# Altium schematic symbol library Schlib1.SchLib: 14 symbols
Pins are listed as number, name and electrical type; pins without a type are passive.

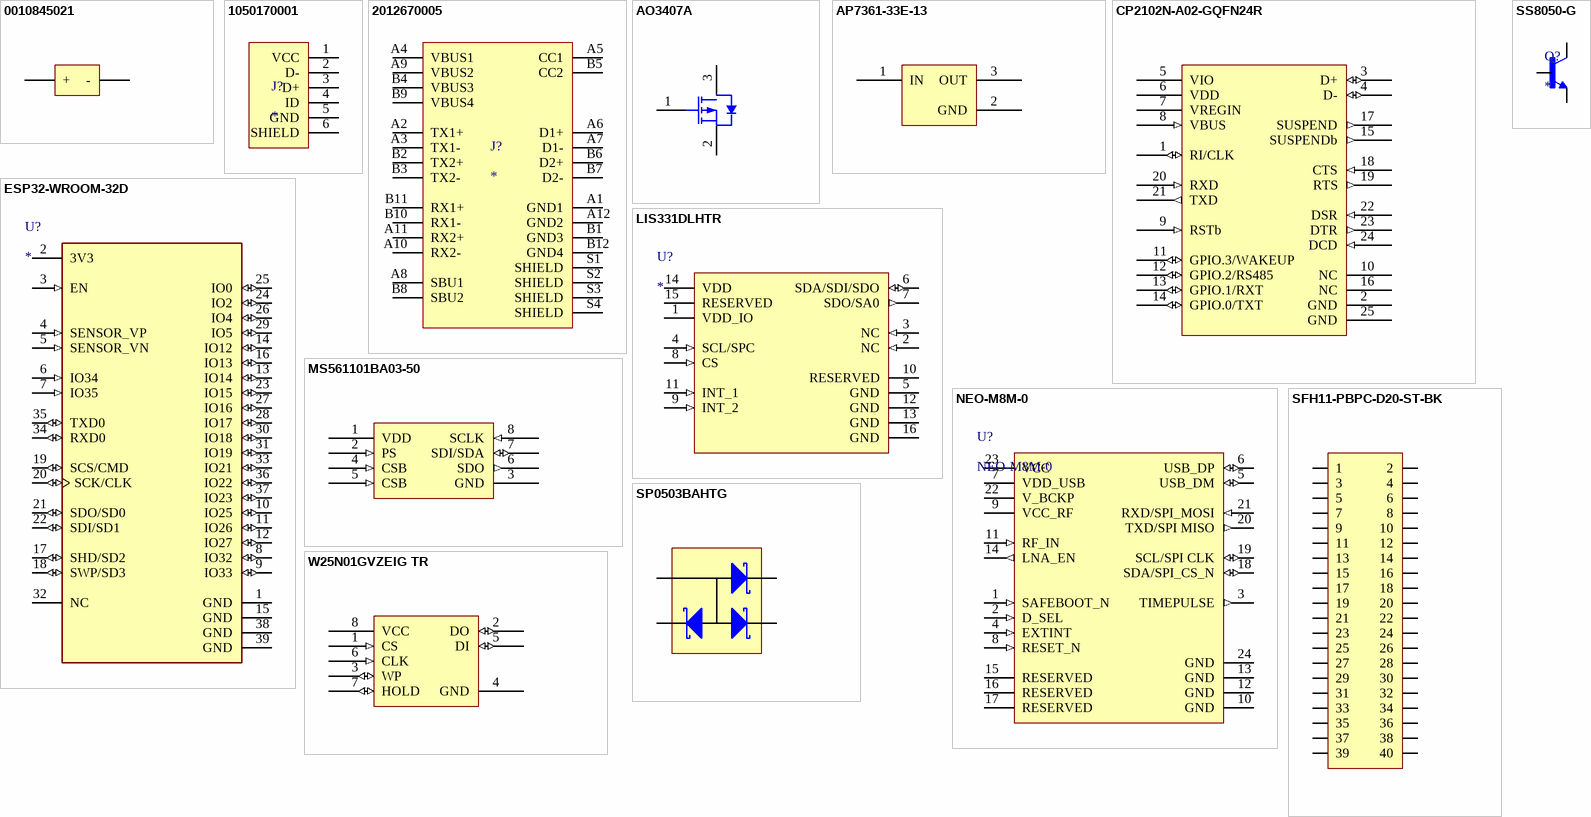
[diagram p0: symbols 0010845021 to W25N01GVZEIG TR]

## 0010845021
designator J?
2 Position Header Connector 0.250" (6.35mm) Through Hole Tin
footprint 0010845021 (2 Position Header Connector 0.250" (6.35mm) Through Hole Tin)
pins: 1 +, 2 -

## 1050170001
designator J?
Conn.; Data; USB; Recept.; Micro; B Type; Bottom Mount, SMT, with Solder Tabs, Lead-Free; MP: 1050170001; Package: None; Value: *; Price: None; Availability: Unavailable
footprint MOLEX_1050170001
pins: 1 VCC, 2 D-, 3 D+, 4 ID, 5 GND, 6 SHIELD

## 2012670005
designator J?
USB-C _USB TYPE-C_ USB 3.1 _USB 3.1 Gen 2, Superspeed+_ Receptacle Connector 24 Position Surface Mount, Right Angle; Through Hole; MP: 2012670005; MF: Molex; Value: *; Package: None; Price: None; SnapEDA_Link: https://www.snapeda.com/parts/2012670005/Molex/view-part/2783282/?ref=snap; Availability: Unavailable
footprint MOLEX_2012670005
pins: A1 GND1 (power), A2 TX1+, A3 TX1-, A4 VBUS1 (power), A5 CC1, A6 D1+, A7 D1-, A8 SBU1, A9 VBUS2 (power), A10 RX2-, A11 RX2+, A12 GND2 (power), B1 GND3 (power), B2 TX2+, B3 TX2-, B4 VBUS3 (power), B5 CC2, B6 D2+, B7 D2-, B8 SBU2, B9 VBUS4 (power), B10 RX1-, B11 RX1+, B12 GND4 (power), S1 SHIELD (power), S2 SHIELD (power), S3 SHIELD (power), S4 SHIELD (power)

## AO3407A
designator Q?
P-Channel 30 V 4.3A (Ta) 1.4W (Ta) Surface Mount SOT-23-3
footprint AO3407A (P-Channel 30 V 4.3A (Ta) 1.4W (Ta) Surface Mount SOT-23-3)
pins: 1 GATE, 2 SOURCE, 3 DRAIN

## AP7361-33E-13
designator U?
Linear Voltage Regulator IC Positive Fixed 1 Output 1A SOT-223-3
footprint AP7361-33E-13 (Linear Voltage Regulator IC Positive Fixed 1 Output 1A SOT-223-3)
pins: 1 IN, 2 GND, 3 OUT

## CP2102N-A02-GQFN24R
designator U?
USB Bridge, USB to UART USB 2.0 UART Interface 24-QFN (4x4)
footprint CP2102N-A02-GQFN24R (USB Bridge, USB to UART USB 2.0 UART Interface 24-QFN (4x4))
pins: 1 RI/CLK (io), 2 GND (power), 3 D+ (io), 4 D- (io), 5 VIO (power), 6 VDD (power), 7 VREGIN (power), 8 VBUS (in), 9 RSTb (in), 10 NC (oe), 11 GPIO.3/WAKEUP (io), 12 GPIO.2/RS485 (io), 13 GPIO.1/RXT (io), 14 GPIO.0/TXT (io), 15 SUSPENDb (out), 16 NC (oe), 17 SUSPEND (out), 18 CTS (in), 19 RTS (out), 20 RXD (in), 21 TXD (out), 22 DSR (in), 23 DTR (out), 24 DCD (in), 25 GND (power)

## ESP32-WROOM-32D
designator U?
Bluetooth, WiFi 802.11b/g/n, Bluetooth v4.2 + EDR, Class 1, 2 and 3 Transceiver Module 2.4GHz ~ 2.5GHz Integrated, Trace Surface Mount; MP: ESP32-WROOM-32D; Value: *; Availability: Unavailable; Price: None; Package: None
footprint MODULE_ESP32-WROOM-32D
pins: 1 GND (power), 2 3V3 (power), 3 EN (in), 4 SENSOR_VP (in), 5 SENSOR_VN (in), 6 IO34 (in), 7 IO35 (in), 8 IO32 (io), 9 IO33 (io), 10 IO25 (io), 11 IO26 (io), 12 IO27 (io), 13 IO14 (io), 14 IO12 (io), 15 GND (power), 16 IO13 (io), 17 SHD/SD2 (io), 18 SWP/SD3 (io), 19 SCS/CMD (io), 20 SCK/CLK (io), 21 SDO/SD0 (io), 22 SDI/SD1 (io), 23 IO15 (io), 24 IO2 (io), 25 IO0 (io), 26 IO4 (io), 27 IO16 (io), 28 IO17 (io), 29 IO5 (io), 30 IO18 (io), 31 IO19 (io), 32 NC (oe), 33 IO21 (io), 34 RXD0 (io), 35 TXD0 (io), 36 IO22 (io), 37 IO23 (io), 38 GND (power), 39 GND (power)

## LIS331DLHTR
designator U?
Accelerometer X, Y, Z Axis Â±2g, 4g, 8g 25Hz ~ 500Hz 16-LGA _3x3_; MF: STMicroelectronics; MP: LIS331DLHTR; Package: LGA-16 STMicroelectronics; Value: *; Price: None; SnapEDA_Link: https://www.snapeda.com/parts/LIS331DLHTR/STMicroelectronics/view-part/492753/?ref=snap; Availability: Unavailable
footprint LIS331DLHTR
pins: 1 VDD_IO (power), 2 NC (in), 3 NC (in), 4 SCL/SPC (in), 5 GND, 6 SDA/SDI/SDO (io), 7 SDO/SA0 (out), 8 CS (in), 9 INT_2 (in), 10 RESERVED, 11 INT_1 (in), 12 GND, 13 GND, 14 VDD (power), 15 RESERVED (power), 16 GND

## MS561101BA03-50
designator U?
Pressure Sensor 0.15PSI ~ 17.4PSI (1kPa ~ 120kPa) Absolute 24 b 8-SMD
footprint MS561101BA03-50 (Pressure Sensor 0.15PSI ~ 17.4PSI (1kPa ~ 120kPa) Absolute 24 b 8-SMD)
pins: 1 VDD (power), 2 PS (in), 3 GND (power), 4 CSB (in), 5 CSB (in), 6 SDO (out), 7 SDI/SDA (io), 8 SCLK (in)

## NEO-M8M-0
designator U?
series RF Receiver BeiDou, Galileo, GLONASS, GNSS, GPS 1.575GHz -167dBm; Manufacturer: u-blox; Part Description: u-blox GNSS module; Value: NEO-M8M-0
footprint NEO-M8M-0 (u-blox NEO GNSS module)
pins: 1 SAFEBOOT_N (in), 2 D_SEL (in), 3 TIMEPULSE (out), 4 EXTINT (in), 5 USB_DM (io), 6 USB_DP (io), 7 VDD_USB (power), 8 RESET_N (in), 9 VCC_RF (power), 10 GND (power), 11 RF_IN (in), 12 GND (power), 13 GND (power), 14 LNA_EN (out), 15 RESERVED, 16 RESERVED, 17 RESERVED, 18 SDA/SPI_CS_N (io), 19 SCL/SPI CLK (io), 20 TXD/SPI MISO (out), 21 RXD/SPI_MOSI (in), 22 V_BCKP (power), 23 VCC (power), 24 GND (power)

## SFH11-PBPC-D20-ST-BK
designator J?
40 Position Header Connector 0.100" (2.54mm) Through Hole Gold
footprint SULLINS_SFH11-PBPC-D20-ST-BK
pins: 1, 2, 3, 4, 5, 6, 7, 8, 9, 10, 11, 12, 13, 14, 15, 16, 17, 18, 19, 20, 21, 22, 23, 24, 25, 26, 27, 28, 29, 30, 31, 32, 33, 34, 35, 36, 37, 38, 39, 40

## SP0503BAHTG
designator D?
8.5V Clamp Ipp Tvs Diode Surface Mount SOT-143-4
footprint SP0503BAHTG (8.5V Clamp Ipp Tvs Diode Surface Mount SOT-143-4)
pins: 1, 2, 3, 4

## SS8050-G
designator Q?
Bipolar (BJT) Transistor NPN 25 V 1.5 A 100MHz 300 mW Surface Mount SOT-23-3; MP: SS8050-G; Package: None; Value: *; Price: None; Availability: Unavailable
footprint TRANS_SS8050-G
pins: 1 B, 2 E, 3 C

## W25N01GVZEIG TR
designator U?  Capacity: 1Gb
FLASH - NAND Memory IC 1Gb (128M x 8) SPI 104 MHz 8-WSON (8x6)
footprint W25N01GVZEIG TR_1 (FLASH - NAND Memory IC 1Gb (128M x 8) SPI 104 MHz 8-WSON (8x6))
pins: 1 CS (in), 2 DO (io), 3 WP (io), 4 GND (power), 5 DI (io), 6 CLK (in), 7 HOLD (io), 8 VCC (power)